# Altium footprint library PcbLib1.PcbLib: 46 footprints (part 2 of 3)
Each footprint in its own frame and in the unit in brackets; x right, y up, seen from the top. Pads: shape width x height; smd on the part's side, far side on the other; paste and mask are expansions set on the pad; w line width, h text height; cw(c..) or ccw(c..) is an arc to the next point about the centre after c.
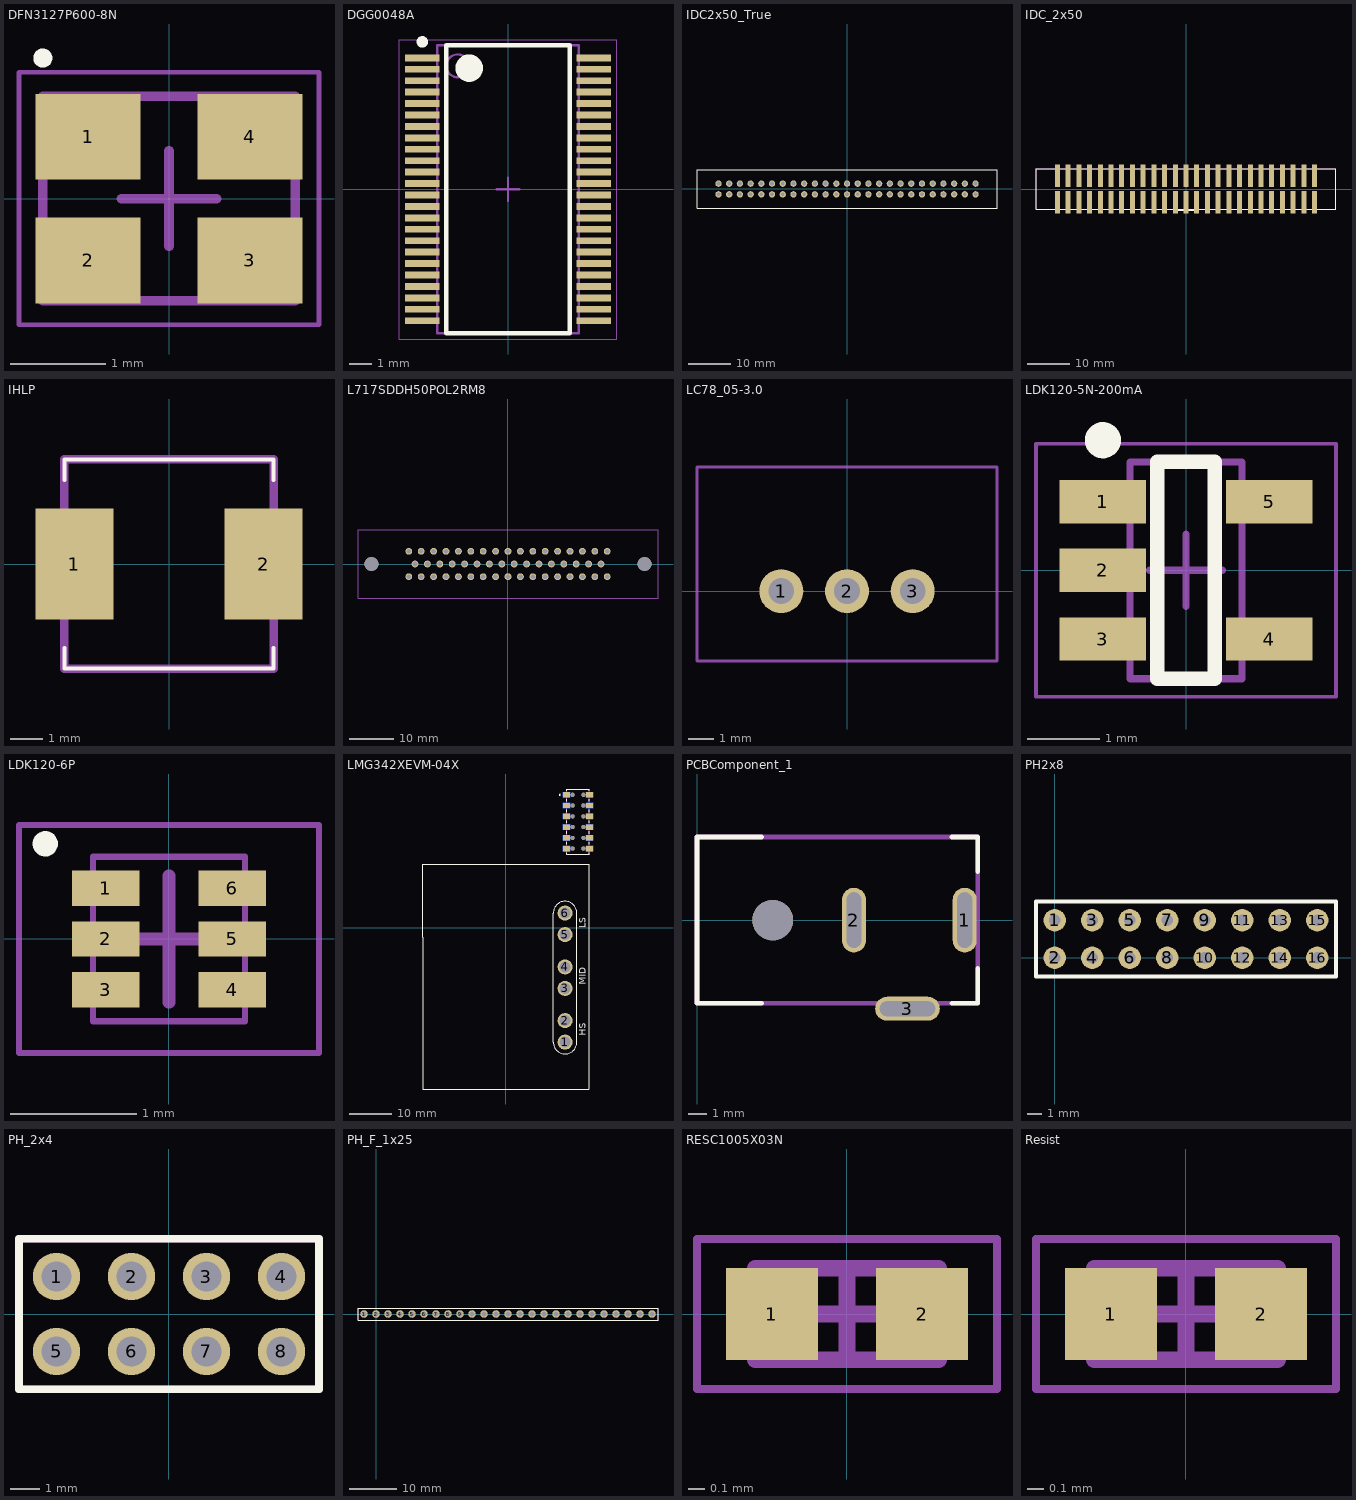
[diagram p1: the footprints below, top view; thin cyan lines are the x and y axes]

## DFN3127P600-8N [mm]
height 0.9
pads (4):
  rect 1.1x0.9 smd: 1(-0.85,0.65) 2(-0.85,-0.65) 3(0.85,-0.65) 4(0.85,0.65)
Top Overlay:
  circle w0.1: c-1.325,1.475 r0.05
Mechanical 13:
  lines w0.1: -1.325,-1.075 1.325,-1.075 1.325,1.075 -1.325,1.075 -1.325,-1.075
Mechanical 15:
  lines w0.05: -1.575,-1.325 1.575,-1.325 1.575,1.325 -1.575,1.325 -1.575,-1.325
  lines w0.1: -0.5,0 0.5,0 ; 0,-0.5 0,0.5
3D body: height 0.9, standoff 0.1, extent -1.325,-1.075 1.325,1.075

## DGG0048A [mm]
height 1.2
pads (48):
  rect 1.5x0.3 smd: 1(-3.75,5.75) 2(-3.75,5.25) 3(-3.75,4.75) 4(-3.75,4.25) 5(-3.75,3.75) 6(-3.75,3.25) 7(-3.75,2.75) 8(-3.75,2.25) 9(-3.75,1.75) 10(-3.75,1.25) 11(-3.75,0.75) 12(-3.75,0.25) 13(-3.75,-0.25) 14(-3.75,-0.75) 15(-3.75,-1.25) 16(-3.75,-1.75) 17(-3.75,-2.25) 18(-3.75,-2.75) 19(-3.75,-3.25) 20(-3.75,-3.75) 21(-3.75,-4.25) 22(-3.75,-4.75) 23(-3.75,-5.25) 24(-3.75,-5.75) 25(3.75,-5.75) 26(3.75,-5.25) 27(3.75,-4.75) 28(3.75,-4.25) 29(3.75,-3.75) 30(3.75,-3.25) 31(3.75,-2.75) 32(3.75,-2.25) 33(3.75,-1.75) 34(3.75,-1.25) 35(3.75,-0.75) 36(3.75,-0.25) 37(3.75,0.25) 38(3.75,0.75) 39(3.75,1.25) 40(3.75,1.75) 41(3.75,2.25) 42(3.75,2.75) 43(3.75,3.25) 44(3.75,3.75) 45(3.75,4.25) 46(3.75,4.75) 47(3.75,5.25) 48(3.75,5.75)
Top Overlay:
  circle w0.25: c-3.75,6.45 r0.125
  circle w0.6: c-1.7,5.3 r0.3
  lines w0.2: -2.7,-6.3 -2.7,6.3 2.7,6.3 2.7,-6.3 -2.7,-6.3
Mechanical 13:
  circle w0.1: c-2.2,5.4 r0.5
  lines w0.1: -3.1,-6.3 -3.1,6.3 3.1,6.3 3.1,-6.3 -3.1,-6.3
Mechanical 15:
  lines w0.05: -4.75,-6.55 -4.75,6.55 4.75,6.55 4.75,-6.55 -4.75,-6.55
  lines w0.1: -0.5,0 0.5,0 ; 0,-0.5 0,0.5
3D body "DGG0048A.step": height 1.2, standoff 0, extent -4.05,-6.3 4.05,6.3

## IDC2x50_True [mm]
pads (50):
  round 1.5 hole 0.889: 1(-30.48,1.27) 2(-30.48,-1.27) 3(-27.94,1.27) 4(-27.94,-1.27) 5(-25.4,1.27) 6(-25.4,-1.27) 7(-22.86,1.27) 8(-22.86,-1.27) 9(-20.32,1.27) 10(-20.32,-1.27) 11(-17.78,1.27) 12(-17.78,-1.27) 13(-15.24,1.27) 14(-15.24,-1.27) 15(-12.7,1.27) 16(-12.7,-1.27) 17(-10.16,1.27) 18(-10.16,-1.27) 19(-7.62,1.27) 20(-7.62,-1.27) 21(-5.08,1.27) 22(-5.08,-1.27) 23(-2.54,1.27) 24(-2.54,-1.27) 25(0,1.27) 26(0,-1.27) 27(2.54,1.27) 28(2.54,-1.27) 29(5.08,1.27) 30(5.08,-1.27) 31(7.62,1.27) 32(7.62,-1.27) 33(10.16,1.27) 34(10.16,-1.27) 35(12.7,1.27) 36(12.7,-1.27) 37(15.24,1.27) 38(15.24,-1.27) 39(17.78,1.27) 40(17.78,-1.27) 41(20.32,1.27) 42(20.32,-1.27) 43(22.86,1.27) 44(22.86,-1.27) 45(25.4,1.27) 46(25.4,-1.27) 47(27.94,1.27) 48(27.94,-1.27) 49(30.48,1.27) 50(30.48,-1.27)
Top Overlay:
  lines w0.254: -35.573,-4.585 -35.573,4.572 35.56,4.572 35.56,-4.585 -35.573,-4.585

## IDC_2x50 [mm]
pads (50):
  rect 1.2x5.25 smd: 1(-30.48,3.125) 2(-30.48,-3.125) 3(-27.94,3.125) 4(-27.94,-3.125) 5(-25.4,3.125) 6(-25.4,-3.125) 7(-22.86,3.125) 8(-22.86,-3.125) 9(-20.32,3.125) 10(-20.32,-3.125) 11(-17.78,3.125) 12(-17.78,-3.125) 13(-15.24,3.125) 14(-15.24,-3.125) 15(-12.7,3.125) 16(-12.7,-3.125) 17(-10.16,3.125) 18(-10.16,-3.125) 19(-7.62,3.125) 20(-7.62,-3.125) 21(-5.08,3.125) 22(-5.08,-3.125) 23(-2.54,3.125) 24(-2.54,-3.125) 25(0,3.125) 26(0,-3.125) 27(2.54,3.125) 28(2.54,-3.125) 29(5.08,3.125) 30(5.08,-3.125) 31(7.62,3.125) 32(7.62,-3.125) 33(10.16,3.125) 34(10.16,-3.125) 35(12.7,3.125) 36(12.7,-3.125) 37(15.24,3.125) 38(15.24,-3.125) 39(17.78,3.125) 40(17.78,-3.125) 41(20.32,3.125) 42(20.32,-3.125) 43(22.86,3.125) 44(22.86,-3.125) 45(25.4,3.125) 46(25.4,-3.125) 47(27.94,3.125) 48(27.94,-3.125) 49(30.48,3.125) 50(30.48,-3.125)
Top Overlay:
  lines w0.254: -2.54,-4.75 -2.54,-4.98 2.54,-4.98 2.54,-4.75 ; -35.56,-4.75 35.56,-4.75 35.56,4.75 -35.56,4.75 -35.56,-4.75
Mechanical 1:
  lines w0.254: -35.56,-4.75 -35.56,4.75 35.56,4.75 35.56,-4.75 -35.56,-4.75
3D body "IDC_Box_50.step": height 10.32, standoff 0, extent -35.56,-4.8 35.56,4.8

## IHLP [mil]
pads (2):
  rect 95x135 smd: 1(-115,0) 2(115,0)
Top Overlay:
  lines w5: -127.36,-102.36 -127.36,-127.36 127.36,-127.36 127.36,-102.36 ; -127.36,102.36 -127.36,127.36 127.36,127.36 127.36,102.36
Mechanical 1:
  lines w10: -127.36,-127.36 127.36,-127.36 127.36,127.36 -127.36,127.36 -127.36,-127.36
3D body: height 118.11, standoff 0, extent -127.36,-127.36 127.36,127.36

## L717SDDH50POL2RM8 [mm]
pads (52):
  round 1.524 hole 1.1: 1(-22.16,2.84) 2(-19.39,2.84) 3(-16.62,2.84) 4(-13.85,2.84) 5(-11.08,2.84) 6(-8.31,2.84) 7(-5.54,2.84) 8(-2.77,2.84) 9(0,2.84) 10(2.77,2.84) 11(5.54,2.84) 12(8.31,2.84) 13(11.08,2.84) 14(13.85,2.84) 15(16.62,2.84) 16(19.39,2.84) 17(22.16,2.84) 18(-20.775,0) 19(-18.005,0) 20(-15.235,0) 21(-12.465,0) 22(-9.695,0) 23(-6.925,0) 24(-4.155,0) 25(-1.385,0) 26(1.385,0) 27(4.155,0) 28(6.925,0) 29(9.695,0) 30(12.465,0) 31(15.235,0) 32(18.005,0) 33(20.775,0) 34(-22.16,-2.84) 35(-19.39,-2.84) 36(-16.62,-2.84) 37(-13.85,-2.84) 38(-11.08,-2.84) 39(-8.31,-2.84) 40(-5.54,-2.84) 41(-2.77,-2.84) 42(0,-2.84) 43(2.77,-2.84) 44(5.54,-2.84) 45(8.31,-2.84) 46(11.08,-2.84) 47(13.85,-2.84) 48(16.62,-2.84) 49(19.39,-2.84) 50(22.16,-2.84)
  round 3.1 hole 3.1 unplated: ""(-30.5,0) ""(30.5,0)
Mechanical 1:
  lines w0.254: -33.5,-7.675 33.5,-7.675 33.5,7.675 -33.5,7.675 -33.5,-7.675
3D body "L717SDDH50POL2RM8_M.stp": height 12.93, standoff -4.18, extent -33.5,-7.675 33.5,7.675

## LC78_05-3.0 [mm]
pads (3):
  round 1.7 hole 1: 1(-2.54,0) 2(0,0) 3(2.54,0)
Mechanical 1:
  lines w0.127: -5.8,-2.7 -5.8,4.8 5.8,4.8 5.8,-2.7 -5.8,-2.7
3D body: height 10.2, standoff 0, extent -5.8,-2.7 5.8,4.8

## LDK120-5N-200mA [mm] "SOT23, 5-Leads, Body 2,95x2,80mm, Pitch 0,95mm, IPC Medium Density"
height 1.45
pads (5):
  rect 1.2x0.6 smd: 1(-1.15,0.95) 2(-1.15,0) 3(-1.15,-0.95) 4(1.15,-0.95) 5(1.15,0.95)
Top Overlay:
  circle w0.25: c-1.15,1.8 r0.125
  lines w0.2: -0.4,-1.5 0.4,-1.5 0.4,1.5 -0.4,1.5 -0.4,-1.5
Mechanical 13:
  lines w0.1: -0.775,-1.5 -0.775,1.5 0.775,1.5 0.775,-1.5 -0.775,-1.5
Mechanical 15:
  lines w0.05: -2.075,-1.75 -2.075,1.75 2.075,1.75 2.075,-1.75 -2.075,-1.75
  lines w0.1: -0.5,0 0.5,0 ; 0,-0.5 0,0.5
3D body "SOT95P280X145-5N.step": height 1.45, standoff 0, extent -1.45,-1.5 1.45,1.5

## LDK120-6P [mm] "SON, 6-Leads, Body 1,30x1,20mm, Pitch 0,40mm, IPC Medium Density"
height 0.5
pads (6):
  rect 0.53x0.28 smd: 1(-0.5,0.4) 2(-0.5,0) 3(-0.5,-0.4) 4(0.5,-0.4) 5(0.5,0) 6(0.5,0.4)
Top Overlay:
  circle w0.1: c-0.977,0.752 r0.05
Mechanical 13:
  lines w0.05: -0.6,-0.65 -0.6,0.65 0.6,0.65 0.6,-0.65 -0.6,-0.65
Mechanical 15:
  lines w0.05: -1.185,-0.9 -1.185,0.9 1.185,0.9 1.185,-0.9 -1.185,-0.9
  lines w0.1: -0.5,0 0.5,0 ; 0,-0.5 0,0.5
3D body "LDK120-6P.step": height 0.5, standoff 0, extent -0.62,-0.65 0.62,0.65

## LMG342XEVM-04X [mil]
pads (42):
  round 140 hole 102: 1(552,-1065) 2(552,-865) 3(552,-565) 4(552,-365) 5(552,-65) 6(552,135)
  rrect8% 66.14x50 smd paste+0 mask+0: 7(564.91,1235) 8(779.09,1235) 9(564.91,1135) 10(779.09,1135) 11(564.91,1035) 12(779.09,1035) 13(564.91,935) 14(779.09,935) 15(564.91,835) 16(779.09,835) 17(564.91,735) 18(779.09,735)
  rrect8% 66.14x50 smd far side paste+0 mask+0: 7(564.91,1235) 8(779.09,1235) 9(564.91,1135) 10(779.09,1135) 11(564.91,1035) 12(779.09,1035) 13(564.91,935) 14(779.09,935) 15(564.91,835) 16(779.09,835) 17(564.91,735) 18(779.09,735)
  round 38.19 hole 38.19 unplated mask+0.39: ""(622,735) ""(622,835) ""(622,935) ""(622,1035) ""(622,1135) ""(622,1235) ""(722,735) ""(722,835) ""(722,935) ""(722,1035) ""(722,1135) ""(722,1235)
Top Overlay:
  circle w9.84: c503.5,1235 r4.92
  lines w5.91: 569.44,695.24 569.44,681.06 774.56,681.06 774.56,695.24 ; 569.44,774.76 569.44,795.24 ; 569.44,874.76 569.44,895.24 ; 569.44,974.76 569.44,995.24 ; 569.44,1074.76 569.44,1095.24 ; 569.44,1174.76 569.44,1195.24 ; 569.44,1274.76 569.44,1288.94 774.56,1288.94 774.56,1274.76 ; 774.56,774.76 774.56,795.24 ; 774.56,874.76 774.56,895.24 ; 774.56,974.76 774.56,995.24 ; 774.56,1074.76 774.56,1095.24 ; 774.56,1174.76 774.56,1195.24
  lines w10: 769.16,590.55 -770,590.55 -770,-87 -770,-1500 770,-1500 770,590.55 ; 442.63,-1065 ccw(c552,-1065) 661.37,-1065 661.37,135 ccw(c552,135) 442.63,135 442.63,-1065
  text "MID" at 744.03,-529.97 h60
  text "LS" at 744,-5 h60
  text "HS" at 744.02,-1005 h60
Mechanical 6:
  lines w5.91: 569.44,681.06 774.56,681.06 774.56,1288.94 569.44,1288.94 569.44,681.06
3D body "0435-0-15-15-03-27-10-0 v1.step": height 112.99, standoff -227.01, extent 493.12,-1124 610.88,-1006.47
3D body "0435-0-15-15-03-27-10-0 v1.step": height 112.99, standoff -227.01, extent 493.12,-924 610.88,-806.47
3D body "0435-0-15-15-03-27-10-0 v1.step": height 112.99, standoff -227.01, extent 493.12,-624 610.88,-506.47
3D body "0435-0-15-15-03-27-10-0 v1.step": height 112.99, standoff -227.01, extent 493.12,-424 610.88,-306.47
3D body "0435-0-15-15-03-27-10-0 v1.step": height 112.99, standoff -227.01, extent 493.12,-124 610.88,-6.47
3D body "0435-0-15-15-03-27-10-0 v1.step": height 112.99, standoff -227.01, extent 493.12,76 610.88,193.53
3D body "LMG3422EVM-043-002_A2.step": height 1683.46, standoff -81.99, extent -766.49,-1500.49 775,1500.49
3D body "soporte_gan_evm_v1.step": height 361.89, standoff 22.05, extent 241.57,267.36 815.44,636.76
3D body "Conn_HLE-106-02-G-DV-BE-A_HDR12.STEP": height 149.2, standoff -44, extent 542.5,685 801.5,1285

## PCBComponent_1 [mm]
pads (4):
  oval 1.3x3.5 hole 0.8 slot 3 at 90 deg unplated: 1(14.5,0) 2(8.5,0)
  oval 3.5x1.3 hole 0.8 slot 3 at 0 deg unplated: 3(11.4,-4.8)
  round 2.2 hole 2.2 unplated mask+0.01: ""(4.1,0)
Top Overlay:
  lines w0.254: 3.5,-4.5 0,-4.5 0,0 0,4.5 3.5,4.5 ; 13.818,-4.5 15.2,-4.5 15.2,-2.616 ; 13.818,4.5 15.2,4.5 15.2,2.616
Mechanical 1:
  lines w0.254: 0,-4.513 15.2,-4.513 15.2,4.5 0,4.5 0,-4.513
3D body: height 11, standoff 0, extent 0,-4.5 15.2,4.5

## PH2x8 [mil]
pads (16):
  round 60 hole 30: 1(0,100) 2(0,0) 3(100,100) 4(100,0) 5(200,100) 6(200,0) 7(300,100) 8(300,0) 9(400,100) 10(400,0) 11(500,100) 12(500,0) 13(600,100) 14(600,0) 15(700,100) 16(700,0)
Top Overlay:
  lines w10: -50,-50 -50,150 750,150 750,-50 -50,-50

## PH_2x4 [mm]
pads (8):
  round 1.6 hole 1: 1(-3.809,1.27) 2(-1.27,1.27) 3(1.27,1.27) 4(3.809,1.27) 5(-3.809,-1.27) 6(-1.27,-1.27) 7(1.27,-1.27) 8(3.809,-1.27)
Top Overlay:
  lines w0.254: -5.079,-2.54 5.079,-2.54 ; -5.079,-2.54 -5.079,2.54 5.079,2.54 ; -5.079,-2.54 -5.079,-2.54 ; 5.079,-2.54 5.079,2.54 ; 5.079,-2.54 5.079,-2.54 ; 5.079,2.54 5.079,2.54
Mechanical 1:
  lines w0.254: -5.079,-2.54 5.079,-2.54 5.079,2.54 -5.079,2.54 -5.079,-2.54
3D body: height 8.4, standoff 0, extent -5.079,-2.54 5.079,2.54

## PH_F_1x25 [mm]
pads (25):
  round 1.6 hole 1: 1(-2.54,0) 2(0,0) 3(2.54,0) 4(5.08,0) 5(7.62,0) 6(10.16,0) 7(12.7,0) 8(15.24,0) 9(17.78,0) 10(20.32,0) 11(22.86,0) 12(25.4,0) 13(27.94,0) 14(30.48,0) 15(33.02,0) 16(35.56,0) 17(38.1,0) 18(40.64,0) 19(43.18,0) 20(45.72,0) 21(48.26,0) 22(50.8,0) 23(53.34,0) 24(55.88,0) 25(58.42,0)
Top Overlay:
  lines w0.254: -3.81,-1.27 -3.81,1.27 59.69,1.27 59.69,-1.27 -1.27,-1.27 -3.81,-1.27
Mechanical 1:
  lines w0.254: -3.81,-1.27 -1.27,-1.27 59.69,-1.27 59.69,1.27 -3.81,1.27 -3.81,-1.27
3D body: height 8, standoff 0, extent -3.81,-1.27 59.69,1.27

## RESC1005X03N [mm] "Chip Resistor, 2-Leads, Body 1,00x0,50mm, IPC Medium Density"
height 0.3
pads (2):
  rect 0.55x0.55 smd: 1(-0.45,0) 2(0.45,0)
Mechanical 13:
  lines w0.1: -0.55,-0.275 -0.55,0.275 0.55,0.275 0.55,-0.275 -0.55,-0.275
Mechanical 15:
  lines w0.05: -0.9,-0.45 -0.9,0.45 0.9,0.45 0.9,-0.45 -0.9,-0.45
  lines w0.1: -0.275,0 0.275,0 ; 0,-0.275 0,0.275
3D body: height 0.3, standoff 0, extent -0.35,-0.275 0.35,0.275
3D body: height 0.3, standoff 0, extent -0.55,-0.275 -0.35,0.275
3D body: height 0.3, standoff 0, extent 0.35,-0.275 0.55,0.275

## Resist [mm]
pads (2):
  rect 0.55x0.55 smd: 1(-0.45,0) 2(0.45,0)
Mechanical 13:
  lines w0.1: -0.55,-0.275 -0.55,0.275 0.55,0.275 0.55,-0.275 -0.55,-0.275
Mechanical 15:
  lines w0.05: -0.9,-0.45 -0.9,0.45 0.9,0.45 0.9,-0.45 -0.9,-0.45
  lines w0.1: -0.275,0 0.275,0 ; 0,-0.275 0,0.275
3D body: height 0.3, standoff 0, extent -0.35,-0.275 0.35,0.275
3D body: height 0.3, standoff 0, extent -0.55,-0.275 -0.35,0.275
3D body: height 0.3, standoff 0, extent 0.35,-0.275 0.55,0.275